# EAGLE library part M09S (library con-amp-quick)
AMP QUICK CONNECTOR
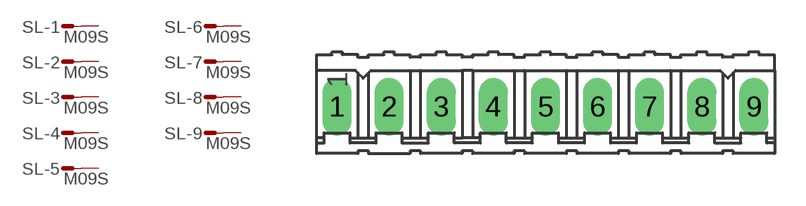
[diagram p28: symbol with the pads of 09P; footprint 09P]

Designator prefix SL; gates -1=M -2=M -3=M -4=M -5=M -6=M -7=M -8=M -9=M

## M09S (OC_FARNELL: unknown; OC_NEWARK: unknown)  [09P]
1  -1:S  pas
2  -2:S  pas
3  -3:S  pas
4  -4:S  pas
5  -5:S  pas
6  -6:S  pas
7  -7:S  pas
8  -8:S  pas
9  -9:S  pas

## Footprint 09P (pad centres in mm)
AMP QUICK CONNECTOR
drill 0.914 long: 1 -10.16,0; 2 -7.62,0; 3 -5.08,0; 4 -2.54,0; 5 0,0; 6 2.54,0; 7 5.08,0; 8 7.62,0; 9 10.16,0